# Altium footprint library burr-brown.PCBLIB: 61 footprints (part 1 of 4)
Each footprint in its own frame and in the unit in brackets; x right, y up, seen from the top. Pads: shape width x height; smd on the part's side, far side on the other; paste and mask are expansions set on the pad; w line width, h text height; cw(c..) or ccw(c..) is an arc to the next point about the centre after c.
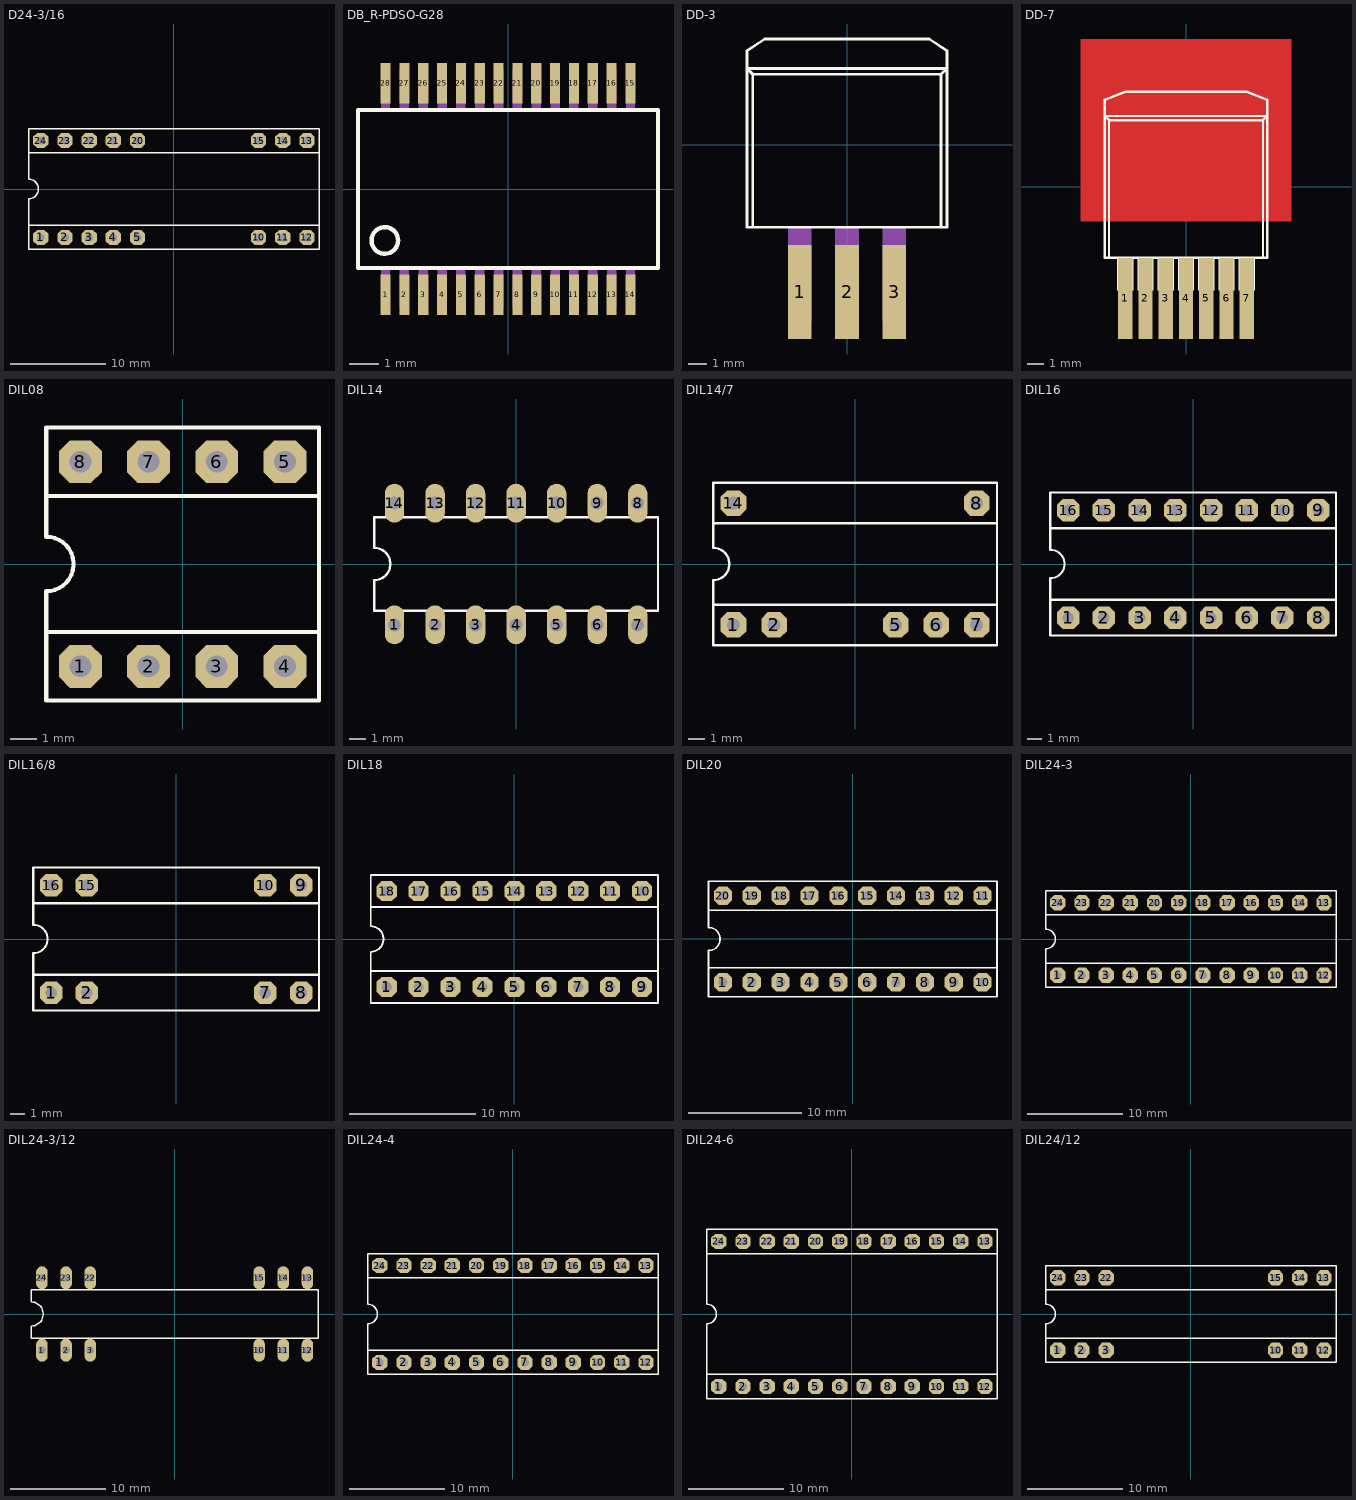
[diagram p0: the footprints below, top view; thin cyan lines are the x and y axes]

## D24-3/16 [mil]
pads (16):
  oct 63x63 hole 32: 1(-550,-200) 2(-450,-200) 3(-350,-200) 4(-250,-200) 5(-150,-200) 10(350,-200) 11(450,-200) 12(550,-200) 13(550,200) 14(450,200) 15(350,200) 20(-150,200) 21(-250,200) 22(-350,200) 23(-450,200) 24(-550,200)
Top Overlay:
  lines w6: -600,-150 -600,-250 600,-250 600,-150 ; -600,-150 -600,-40 ccw(c-600,0) -600,40 -600,150 ; -600,-150 600,-150 ; -600,150 -600,250 600,250 600,150 ; -600,150 600,150 ; 600,-150 600,150

## DB_R-PDSO-G28 [mil]
pads (28):
  rect 13.7x55 smd: 1(-166.34,-143.94) 2(-140.75,-143.94) 3(-115.16,-143.94) 4(-89.57,-143.94) 5(-63.98,-143.94) 6(-38.39,-143.94) 7(-12.8,-143.94) 8(12.8,-143.94) 9(38.39,-143.94) 10(63.98,-143.94) 11(89.57,-143.94) 12(115.16,-143.94) 13(140.75,-143.94) 14(166.34,-143.94) 15(166.34,143.94) 16(140.75,143.94) 17(115.16,143.94) 18(89.57,143.94) 19(63.98,143.94) 20(38.39,143.94) 21(12.8,143.94) 22(-12.8,143.94) 23(-38.39,143.94) 24(-63.98,143.94) 25(-89.57,143.94) 26(-115.16,143.94) 27(-140.75,143.94) 28(-166.34,143.94)
Top Overlay:
  circle w6: c-167.32,-69.88 r18.09
  lines w6: -203.74,-107.28 203.74,-107.28 203.74,107.28 -203.74,107.28 -203.74,-107.28
Mechanical 16:
  rectangle: -172.74,110.24 -159.94,161.42
  rectangle: -172.74,-161.42 -159.94,-110.24
  rectangle: -147.15,-161.42 -134.35,-110.24
  rectangle: -121.56,-161.42 -108.76,-110.24
  rectangle: -147.15,110.24 -134.35,161.42
  rectangle: -121.56,110.24 -108.76,161.42
  rectangle: -95.96,110.24 -83.17,161.42
  rectangle: -70.37,110.24 -57.58,161.42
  rectangle: -44.78,110.24 -31.99,161.42
  rectangle: -19.19,110.24 -6.4,161.42
  rectangle: 6.4,110.24 19.19,161.42
  rectangle: 31.99,110.24 44.78,161.42
  rectangle: 57.58,110.24 70.37,161.42
  rectangle: 83.17,110.24 95.96,161.42
  rectangle: 108.76,110.24 121.56,161.42
  rectangle: 134.35,110.24 147.15,161.42
  rectangle: 159.94,110.24 172.74,161.42
  rectangle: -95.96,-161.42 -83.17,-110.24
  rectangle: -70.37,-161.42 -57.58,-110.24
  rectangle: -44.78,-161.42 -31.99,-110.24
  rectangle: -19.19,-161.42 -6.4,-110.24
  rectangle: 6.4,-161.42 19.19,-110.24
  rectangle: 31.99,-161.42 44.78,-110.24
  rectangle: 57.58,-161.42 70.37,-110.24
  rectangle: 83.17,-161.42 95.96,-110.24
  rectangle: 108.76,-161.42 121.56,-110.24
  rectangle: 134.35,-161.42 147.15,-110.24
  rectangle: 159.94,-161.42 172.74,-110.24

## DD-3 [mil]
pads (3):
  rect 50x200 smd: 1(-100,-312.5) 2(0,-312.5) 3(100,-312.5)
Top Overlay:
  lines w6: -212.52,162.52 212.52,162.52 ; -212.52,162.52 -212.52,-175 -200.16,-175 ; -212.52,162.52 -200.16,150 ; -212.52,162.52 -212.52,200 -175,225 175,225 212.52,200 212.52,162.52 ; -200.16,-175 199.84,-175 ; -200.16,-175 -200.16,150 ; -200.16,150 199.84,150 ; 199.84,-175 212.52,-175 212.52,162.52 ; 199.84,-175 199.84,150 ; 199.84,150 212.52,162.52
Mechanical 16:
  rectangle: -125,-375 -75,-175
  rectangle: -25,-375 25,-175
  rectangle: 75,-375 125,-175

## DD-7 [mil]
pads (7):
  rect 35x200 smd: 1(-150,-275) 2(-100,-275) 3(-50,-275) 4(0,-275) 5(50,-275) 6(100,-275) 7(150,-275)
Top Layer:
  rectangle: -260,-85 260,365
Top Overlay:
  rectangle: -170,-255 -130,-175
  rectangle: -120,-255 -80,-175
  rectangle: -70,-255 -30,-175
  rectangle: -20,-255 20,-175
  rectangle: 30,-255 70,-175
  rectangle: 80,-255 120,-175
  rectangle: 130,-255 170,-175
  lines w6: -200,175 -200,-175 -190,-175 ; -200,175 200,175 ; -200,175 -200,215 -150,235 150,235 200,215 200,175 ; -200,175 -190,165 ; -190,-175 190,-175 ; -190,-175 -190,165 ; -190,165 190,165 ; 190,-175 200,-175 200,175 ; 190,-175 190,165 ; 190,165 200,175
Top Solder:
  rectangle: -225,-100 225,250
Mechanical 16:
  rectangle: -165,-375 -135,-255
  rectangle: -115,-375 -85,-255
  rectangle: -65,-375 -35,-255
  rectangle: -15,-375 15,-255
  rectangle: 35,-375 65,-255
  rectangle: 85,-375 115,-255
  rectangle: 135,-375 165,-255

## DIL08 [mil]
pads (8):
  oct 63x63 hole 32: 1(-150,-150) 2(-50,-150) 3(50,-150) 4(150,-150) 5(150,150) 6(50,150) 7(-50,150) 8(-150,150)
Top Overlay:
  lines w6: -200,-100 -200,-200 200,-200 200,-100 ; -200,-100 200,-100 ; -200,-100 -200,-40 ccw(c-200,0) -200,40 -200,100 ; -200,100 -200,200 200,200 200,100 ; -200,100 200,100 ; 200,-100 200,100

## DIL14 [mil]
pads (14):
  oval 48x96 hole 32: 1(-300,-150) 2(-200,-150) 3(-100,-150) 4(0,-150) 5(100,-150) 6(200,-150) 7(300,-150) 8(300,150) 9(200,150) 10(100,150) 11(0,150) 12(-100,150) 13(-200,150) 14(-300,150)
Top Overlay:
  lines w6: -350,-115 350,-115 350,115 -350,115 -350,40 cw(c-350,0) -350,-40 -350,-115

## DIL14/7 [mil]
pads (7):
  oct 63x63 hole 32: 1(-300,-150) 2(-200,-150) 5(100,-150) 6(200,-150) 7(300,-150) 8(300,150) 14(-300,150)
Top Overlay:
  lines w6: -350,-100 -350,-200 350,-200 350,-100 ; -350,-100 350,-100 ; -350,-100 -350,-40 ccw(c-350,0) -350,40 -350,100 ; -350,100 -350,200 350,200 350,100 ; -350,100 350,100 ; 350,-100 350,100

## DIL16 [mil]
pads (16):
  oct 63x63 hole 32: 1(-350,-150) 2(-250,-150) 3(-150,-150) 4(-50,-150) 5(50,-150) 6(150,-150) 7(250,-150) 8(350,-150) 9(350,150) 10(250,150) 11(150,150) 12(50,150) 13(-50,150) 14(-150,150) 15(-250,150) 16(-350,150)
Top Overlay:
  lines w6: -400,-100 -400,-200 400,-200 400,-100 ; -400,-100 400,-100 ; -400,-100 -400,-40 ccw(c-400,0) -400,40 -400,100 ; -400,100 -400,200 400,200 400,100 ; -400,100 400,100 ; 400,-100 400,100

## DIL16/8 [mil]
pads (8):
  oct 63x63 hole 32: 1(-350,-150) 2(-250,-150) 7(250,-150) 8(350,-150) 9(350,150) 10(250,150) 15(-250,150) 16(-350,150)
Top Overlay:
  lines w6: -400,-100 -400,-200 400,-200 400,-100 ; -400,-100 400,-100 ; -400,-100 -400,-40 ccw(c-400,0) -400,40 -400,100 ; -400,100 -400,200 400,200 400,100 ; -400,100 400,100 ; 400,-100 400,100

## DIL18 [mil]
pads (18):
  oct 63x63 hole 32: 1(-400,-150) 2(-300,-150) 3(-200,-150) 4(-100,-150) 5(0,-150) 6(100,-150) 7(200,-150) 8(300,-150) 9(400,-150) 10(400,150) 11(300,150) 12(200,150) 13(100,150) 14(0,150) 15(-100,150) 16(-200,150) 17(-300,150) 18(-400,150)
Top Overlay:
  lines w6: -450,-100 -450,-200 450,-200 450,-100 ; -450,-100 450,-100 ; -450,-100 -450,-40 ccw(c-450,0) -450,40 -450,100 ; -450,100 -450,200 450,200 450,100 ; -450,100 450,100 ; 450,-100 450,100

## DIL20 [mil]
pads (20):
  oct 63x63 hole 32: 1(-450,-150) 2(-350,-150) 3(-250,-150) 4(-150,-150) 5(-50,-150) 6(50,-150) 7(150,-150) 8(250,-150) 9(350,-150) 10(450,-150) 11(450,150) 12(350,150) 13(250,150) 14(150,150) 15(50,150) 16(-50,150) 17(-150,150) 18(-250,150) 19(-350,150) 20(-450,150)
Top Overlay:
  lines w6: -500,-100 -500,-200 500,-200 500,-100 ; -500,-100 500,-100 ; -500,-100 -500,-40 ccw(c-500,0) -500,40 -500,100 ; -500,100 -500,200 500,200 500,100 ; -500,100 500,100 ; 500,-100 500,100

## DIL24-3 [mil]
pads (24):
  oct 63x63 hole 32: 1(-550,-150) 2(-450,-150) 3(-350,-150) 4(-250,-150) 5(-150,-150) 6(-50,-150) 7(50,-150) 8(150,-150) 9(250,-150) 10(350,-150) 11(450,-150) 12(550,-150) 13(550,150) 14(450,150) 15(350,150) 16(250,150) 17(150,150) 18(50,150) 19(-50,150) 20(-150,150) 21(-250,150) 22(-350,150) 23(-450,150) 24(-550,150)
Top Overlay:
  lines w6: -600,-100 -600,-200 600,-200 600,-100 ; -600,-100 -600,-40 ccw(c-600,0) -600,40 -600,100 ; -600,-100 600,-100 ; -600,100 -600,200 600,200 600,100 ; -600,100 600,100 ; 600,-100 600,100

## DIL24-3/12 [mil]
pads (12):
  oval 48x96 hole 32: 1(-550,-150) 2(-450,-150) 3(-350,-150) 10(350,-150) 11(450,-150) 12(550,-150) 13(550,150) 14(450,150) 15(350,150) 22(-350,150) 23(-450,150) 24(-550,150)
Top Overlay:
  lines w6: -595,-100 595,-100 595,100 -595,100 -595,50 cw(c-595,0) -595,-50 -595,-100

## DIL24-4 [mil]
pads (24):
  oct 63x63 hole 32: 1(-550,-200) 2(-450,-200) 3(-350,-200) 4(-250,-200) 5(-150,-200) 6(-50,-200) 7(50,-200) 8(150,-200) 9(250,-200) 10(350,-200) 11(450,-200) 12(550,-200) 13(550,200) 14(450,200) 15(350,200) 16(250,200) 17(150,200) 18(50,200) 19(-50,200) 20(-150,200) 21(-250,200) 22(-350,200) 23(-450,200) 24(-550,200)
Top Overlay:
  lines w6: -600,-150 -600,-250 600,-250 600,-150 ; -600,-150 -600,-40 ccw(c-600,0) -600,40 -600,150 ; -600,-150 600,-150 ; -600,150 -600,250 600,250 600,150 ; -600,150 600,150 ; 600,-150 600,150

## DIL24-6 [mil]
pads (24):
  oct 63x63 hole 32: 1(-550,-300) 2(-450,-300) 3(-350,-300) 4(-250,-300) 5(-150,-300) 6(-50,-300) 7(50,-300) 8(150,-300) 9(250,-300) 10(350,-300) 11(450,-300) 12(550,-300) 13(550,300) 14(450,300) 15(350,300) 16(250,300) 17(150,300) 18(50,300) 19(-50,300) 20(-150,300) 21(-250,300) 22(-350,300) 23(-450,300) 24(-550,300)
Top Overlay:
  lines w6: -600,-250 -600,-350 600,-350 600,-250 ; -600,-250 -600,-40 ccw(c-600,0) -600,40 -600,250 ; -600,-250 600,-250 ; -600,250 -600,350 600,350 600,250 ; -600,250 600,250 ; 600,-250 600,250

## DIL24/12 [mil]
pads (12):
  oct 63x63 hole 32: 1(-550,-150) 2(-450,-150) 3(-350,-150) 10(350,-150) 11(450,-150) 12(550,-150) 13(550,150) 14(450,150) 15(350,150) 22(-350,150) 23(-450,150) 24(-550,150)
Top Overlay:
  lines w6: -600,-100 -600,-200 600,-200 600,-100 ; -600,-100 -600,-40 ccw(c-600,0) -600,40 -600,100 ; -600,-100 600,-100 ; -600,100 -600,200 600,200 600,100 ; -600,100 600,100 ; 600,-100 600,100